# Altium integrated library MIC521933YM5TR.IntLib: 2 symbols
Pins are listed as number, name and electrical type; pins without a type are passive.

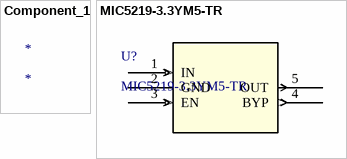
[diagram p0: symbols Component_1 to MIC5219-3.3YM5-TR]

## Component_1
designator *

## MIC5219-3.3YM5-TR
designator U?
No Description Available; Vendor: Microchip; Built_By: EMA_Jessica; SourceLibrary: Microchip_2019-08-23_3; Manufacturer_Part_Number: MIC5219-3.3YM5-TR; Copyright: Copyright (C) 2018 Accelerated Designs. All rights reserved; RefDes: RefDes; Type: DEV
footprint SOT-23-5_M5_MCH
pins: 1 IN (in), 2 GND (power), 3 EN (in), 4 BYP (out), 5 OUT (power)